# Altium footprint library 电源模块.PcbLib: 1 footprints
Each footprint in its own frame and in the unit in brackets; x right, y up, seen from the top. Pads: shape width x height; smd on the part's side, far side on the other; paste and mask are expansions set on the pad; w line width, h text height; cw(c..) or ccw(c..) is an arc to the next point about the centre after c.
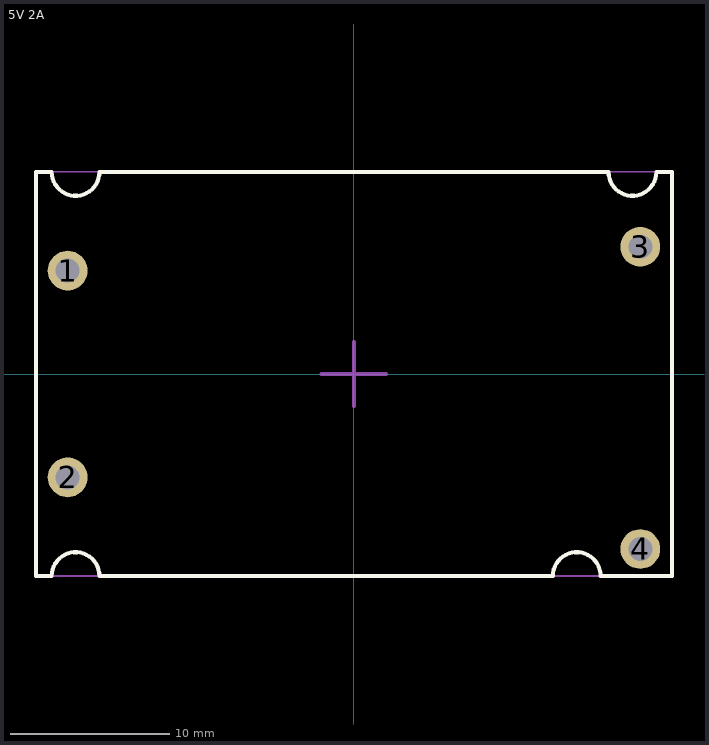
[diagram p0: the footprint, top view; thin cyan lines are the x and y axes]

## 5V 2A [mm] "AC90-265V DC 24V 12V 9V 5V 3.3V输出"
height 20
pads (4):
  round 2.5 hole 1.5: 1(-18,6.5) 2(-18,-6.5) 3(18,8) 4(18,-11)
Top Overlay:
  lines w0.254: -20,-12.7 -19,-12.7 cw(c-17.5,-12.7) -16,-12.7 12.5,-12.7 cw(c14,-12.7) 15.5,-12.7 20,-12.7 20,12.7 19,12.7 cw(c17.5,12.7) 16,12.7 -2.855,12.7 -16,12.7 cw(c-17.5,12.7) -19,12.7 -20,12.7 -20,-1.964 -20,-12.7
Mechanical 13:
  lines w0.1: -20,-12.7 -20,12.7 20,12.7 20,-12.7 -20,-12.7
Mechanical 15:
  lines w0.254: -2.032,0 2,0 ; 0,-2 0,2
3D body: height 21.01, standoff -3.67, extent -20,-12.7 20,12.7